# Altium schematic symbol library 2021-03-09_02-29-56.SchLib: 2 symbols
Pins are listed as number, name and electrical type; pins without a type are passive.

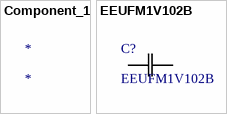
[diagram p0: symbols Component_1 to EEUFM1V102B]

## Component_1
designator *

## EEUFM1V102B
designator C?
No Description Available; Vendor: Panasonic; Built_By: EMA_UL_Team; SourceLibrary: Panasonic_2010-01-01_CAP_EEU; Type: DEV; Manufacturer_Part_Number: EEUFM1V102B; Copyright: Copyright (C) 2018 Accelerated Designs. All rights reserved; RefDes: RefDes
footprint CAP_PAN_12.5X25_PAN
pins: 1, 2